# EAGLE library part STEVAL-MKI015V1 (library STEVAL-MKI015V1)
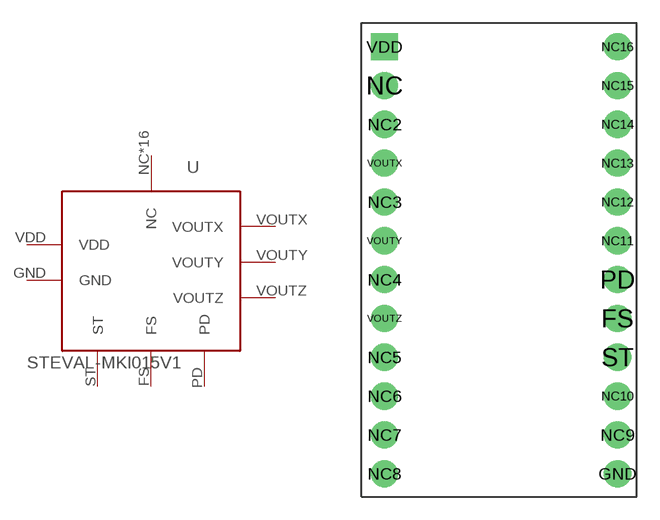
[diagram p0: symbol with the pads of STEVAL-MKI015V1; footprint STEVAL-MKI015V1]

Designator prefix -

## STEVAL-MKI015V1  [STEVAL-MKI015V1]
FS  FS
GND  GND
NC  NC
NC2  NC
NC3  NC
NC4  NC
NC5  NC
NC6  NC
NC7  NC
NC8  NC
NC9  NC
NC10  NC
NC11  NC
NC12  NC
NC13  NC
NC14  NC
NC15  NC
NC16  NC
PD  PD
ST  ST
VDD  VDD
VOUTX  VOUTX
VOUTY  VOUTY
VOUTZ  VOUTZ

## Footprint STEVAL-MKI015V1 (pad centres in mm)
drill 1 pad 1.778: FS 16.74,11.66; GND 16.74,1.5; NC 1.5,26.9; NC2 1.5,24.36; NC3 1.5,19.28; NC4 1.5,14.2; NC5 1.5,9.12; NC6 1.5,6.58; NC7 1.5,4.04; NC8 1.5,1.5; NC9 16.74,4.04; NC10 16.74,6.58; NC11 16.74,16.74; NC12 16.74,19.28; NC13 16.74,21.82; NC14 16.74,24.36; NC15 16.74,26.9; NC16 16.74,29.44; PD 16.74,14.2; ST 16.74,9.12; VOUTX 1.5,21.82; VOUTY 1.5,16.74; VOUTZ 1.5,11.66
drill 0.9 pad 1.778 square: VDD 1.5,29.44